# Altium schematic symbol library PVAZ172N.Schlib: 1 symbol
Pins are listed as number, name and electrical type; pins without a type are passive.

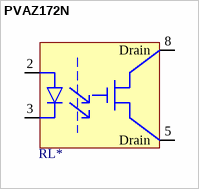
[diagram p0: symbol PVAZ172N]

## PVAZ172N
designator RL*  (value not drawn)
Power MOSFET Photovoltaic Relay
footprint DIP-8
pins: 2, 3, 5 Drain, 8 Drain